# Altium footprint library TPS22916BYFPT.PcbLib: 1 footprints
Each footprint in its own frame and in the unit in brackets; x right, y up, seen from the top. Pads: shape width x height; smd on the part's side, far side on the other; paste and mask are expansions set on the pad; w line width, h text height; cw(c..) or ccw(c..) is an arc to the next point about the centre after c.
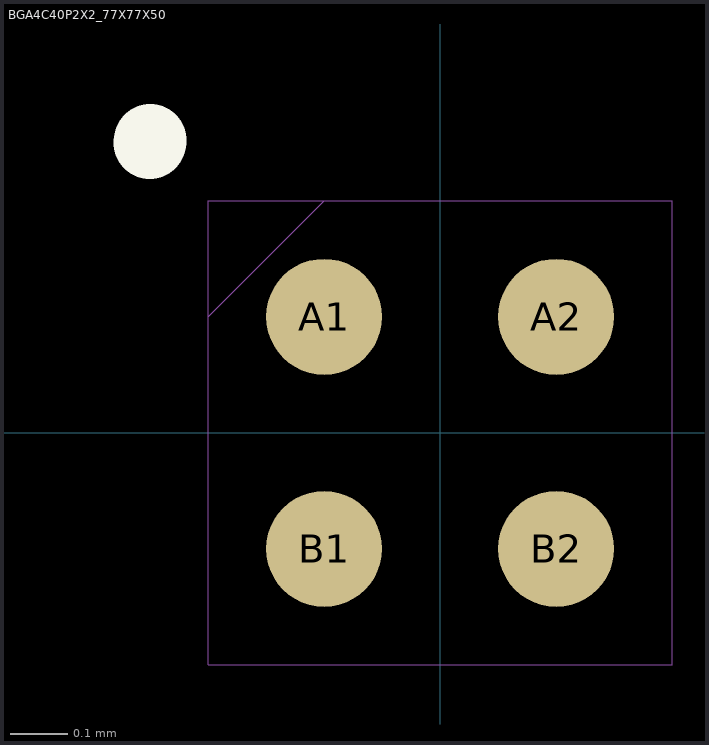
[diagram p0: the footprint, top view; thin cyan lines are the x and y axes]

## BGA4C40P2X2_77X77X50 [mil]
pads (4):
  round 8 smd paste-5 mask+0.79: A1(-8,8) A2(8,8) B1(-8,-8) B2(8,-8)
Top Overlay:
  lines w5: -20,20 ccw(c-23.93,20.17) -20,20.17
Mechanical 13:
  lines w0: -16,8 -8,16 ; -16,-16 16,-16 16,16 -16,16 -16,-16
3D body "TPS22916BYFPT.STEP": height 19.68, standoff 0, extent -15.35,-15.35 15.36,15.36